# Altium footprint library MLACHQ_S.PCBLIB: 155 footprints (part 6 of 10)
Each footprint in its own frame and in the unit in brackets; x right, y up, seen from the top. Pads: shape width x height; smd on the part's side, far side on the other; paste and mask are expansions set on the pad; w line width, h text height; cw(c..) or ccw(c..) is an arc to the next point about the centre after c.
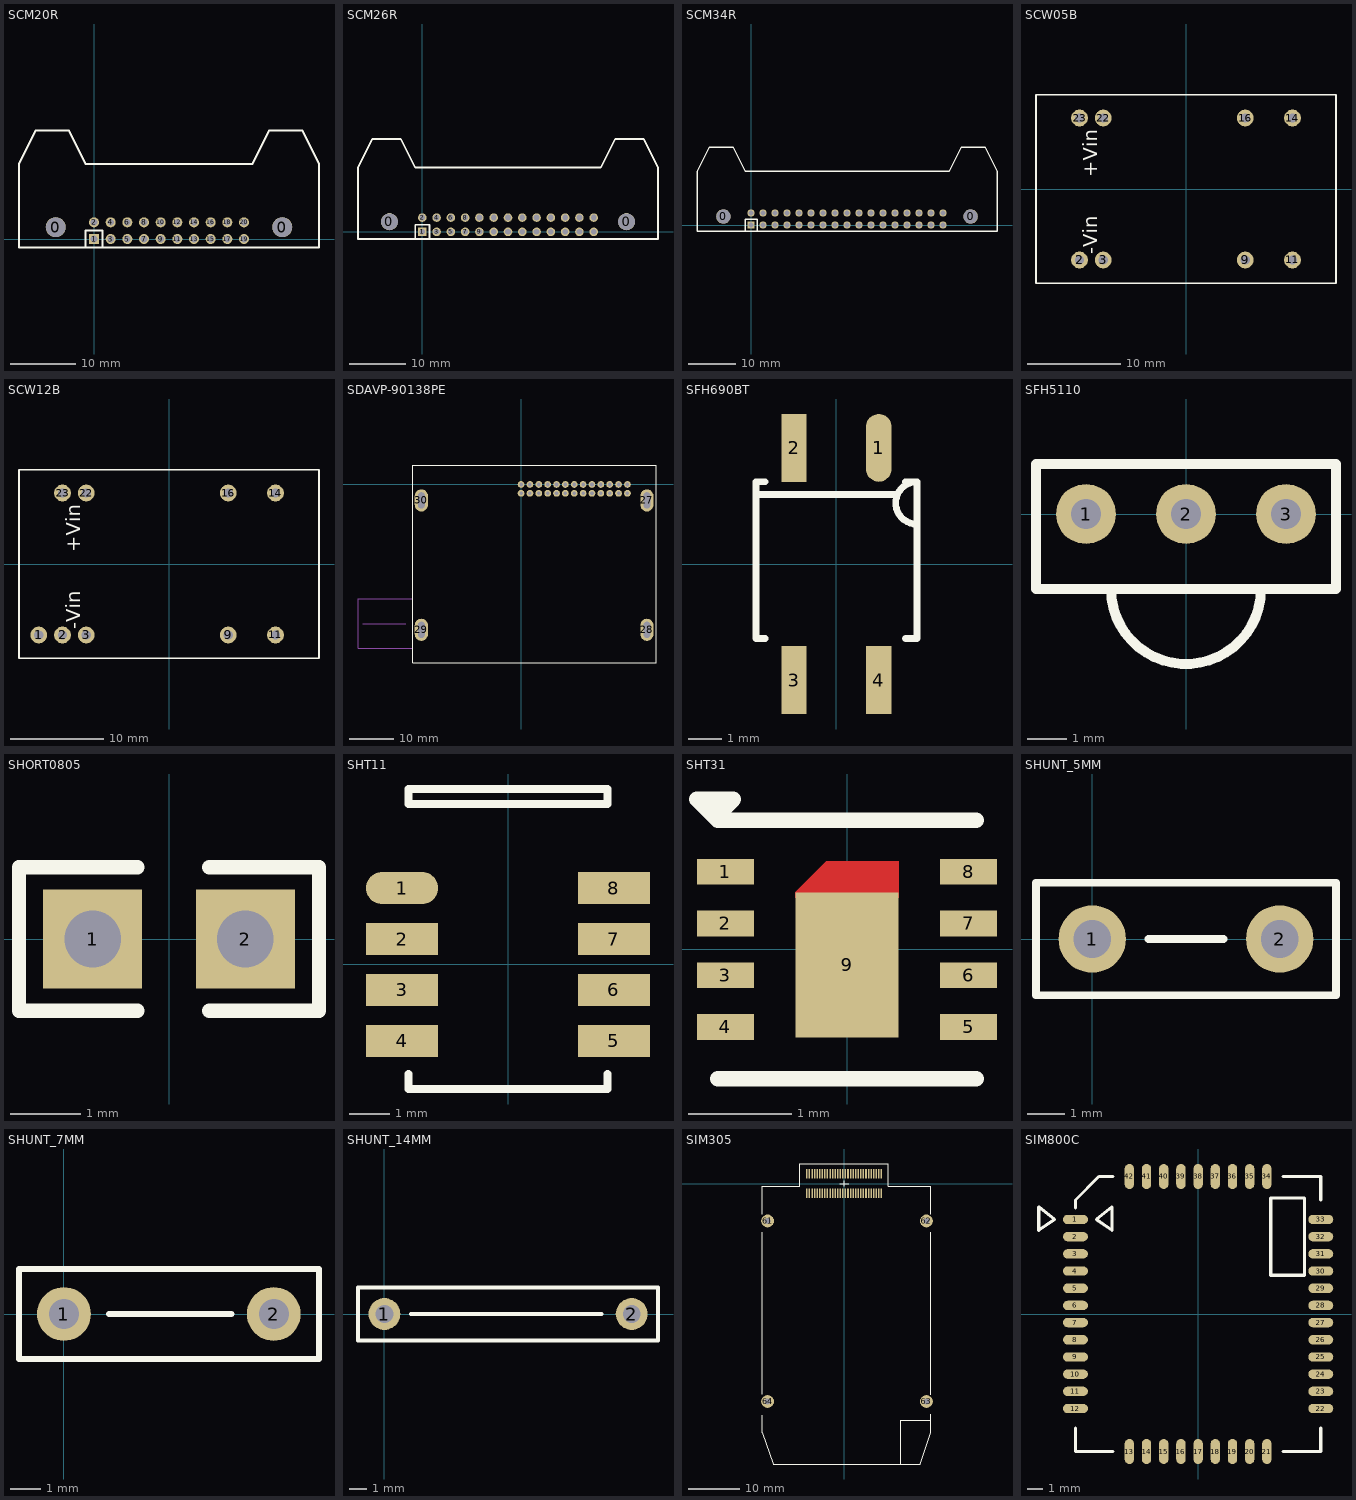
[diagram p5: the footprints below, top view; thin cyan lines are the x and y axes]

## SCM20R [mil]
pads (22):
  round 120 hole 118: 0(-229.92,70.87) 0(1129.92,70.87)
  rect 60x60 hole 40: 1(0,0)
  round 60 hole 40: 2(0,100) 3(100,0) 4(100,100) 5(200,0) 6(200,100) 7(300,0) 8(300,100) 9(400,0) 10(400,100) 11(500,0) 12(500,100) 13(600,0) 14(600,100) 15(700,0) 16(700,100) 17(800,0) 18(800,100) 19(900,0) 20(900,100)
TopOverlay:
  lines w12: -50,-50 -50,50 50,50 50,-50 ; -450,-50 -450,450 -350,650 -150,650 -50,450 950,450 1050,650 1250,650 1350,450 1350,-50 -450,-50

## SCM26R [mil]
pads (28):
  round 120 hole 118: 0(-229.92,70.87) 0(1429.92,70.87)
  rect 60x60 hole 40: 1(0,0)
  round 60 hole 40: 2(0,100) 3(100,0) 4(100,100) 5(200,0) 6(200,100) 7(300,0) 8(300,100) 9(400,0) 10(400,100) 11(500,0) 12(500,100) 13(600,0) 14(600,100) 15(700,0) 16(700,100) 17(800,0) 18(800,100) 19(900,0) 20(900,100) 21(1000,0) 22(1000,100) 23(1100,0) 24(1100,100) 25(1200,0) 26(1200,100)
TopOverlay:
  lines w12: -50,-50 -50,50 50,50 50,-50 ; -450,-50 1650,-50 1650,450 1550,650 1350,650 1250,450 -50,450 -150,650 -350,650 -450,450 -450,-50

## SCM34R [mil]
pads (36):
  round 120 hole 118: 0(-229.92,70.87) 0(1829.92,70.87)
  rect 60x60 hole 40: 1(0,0)
  round 60 hole 40: 2(0,100) 3(100,0) 4(100,100) 5(200,0) 6(200,100) 7(300,0) 8(300,100) 9(400,0) 10(400,100) 11(500,0) 12(500,100) 13(600,0) 14(600,100) 15(700,0) 16(700,100) 17(800,0) 18(800,100) 19(900,0) 20(900,100) 21(1000,0) 22(1000,100) 23(1100,0) 24(1100,100) 25(1200,0) 26(1200,100) 27(1300,0) 28(1300,100) 29(1400,0) 30(1400,100) 31(1500,0) 32(1500,100) 33(1600,0) 34(1600,100)
TopOverlay:
  lines w12: -50,-50 -50,50 50,50 50,-50 ; -450,-50 2050,-50 2050,450 1950,650 1750,650 1650,450 -50,450 -150,650 -350,650 -450,450 -450,-50

## SCW05B [mm]
height 10
pads (8):
  round 1.8 hole 1: 2(-11.43,-7.62) 3(-8.89,-7.62) 9(6.35,-7.62) 11(11.43,-7.62) 14(11.43,7.62) 16(6.35,7.62) 22(-8.89,7.62) 23(-11.43,7.62)
TopOverlay:
  lines w0.203: -16.1,-10.12 16.1,-10.12 16.1,10.12 -16.1,10.12 -16.1,-10.12
  text "+Vin" at -9.525,1.27 h1.52
  text "-Vin" at -9.525,-6.985 h1.52
3D body: height 12.2, standoff 0, extent -15.97,-10.12 15.97,10.12

## SCW12B [mm]
height 10
pads (9):
  round 1.8 hole 1: 1(-13.97,-7.62) 2(-11.43,-7.62) 3(-8.89,-7.62) 9(6.35,-7.62) 11(11.43,-7.62) 14(11.43,7.62) 16(6.35,7.62) 22(-8.89,7.62) 23(-11.43,7.62)
TopOverlay:
  lines w0.203: -16.1,-10.12 -16.1,10.12 16.1,10.12 16.1,-10.12 -16.1,-10.12
  text "-Vin" at -9.525,-6.985 h1.52
  text "+Vin" at -9.525,1.27 h1.52
3D body: height 12.2, standoff 0, extent -15.97,-10.12 15.97,10.12

## SDAVP-90138PE [mil]
pads (30):
  round 60 hole 32: 1(0,0) 2(0,-78.74) 3(78.74,0) 4(78.74,-78.74) 5(157.48,0) 6(157.48,-78.74) 7(236.22,0) 8(236.22,-78.74) 9(314.96,0) 10(314.96,-78.74) 11(393.7,0) 12(393.7,-78.74) 13(472.44,0) 14(472.44,-78.74) 15(551.18,0) 16(551.18,-78.74) 17(629.92,0) 18(629.92,-78.74) 19(708.66,0) 20(708.66,-78.74) 21(787.4,0) 22(787.4,-78.74) 23(866.14,0) 24(866.14,-78.74) 25(944.88,0) 26(944.88,-78.74)
  oval 118.11x196.85 hole 59.06 slot 141.73 at 90 deg: 27(1118.11,-141.73) 28(1118.11,-1291.34) 29(-885.83,-1291.34) 30(-885.83,-141.73)
TopOverlay:
  lines w10: -964.57,-1582.68 1200.79,-1582.68 1200.79,169.29 -964.57,169.29 -964.57,-1582.68
Opisy:
  lines w10: -1407.48,-1236.22 -1023.62,-1236.22 ; -964.57,-1456.69 -1448.82,-1456.69 -1448.82,-1015.75 -964.57,-1015.75

## SFH690BT [mil]
pads (4):
  oval 30x80 smd: 1(50,137)
  rect 30x80 smd: 2(-50,137) 3(-50,-137) 4(50,-137)
TopOverlay:
  lines w8: -95,82 70,82 ; -83.86,-88 -95,-88 -95,97 -83.86,97 ; 81.5,-88 95,-88 95,97 ; 81.5,97 95,97 ; 95,47 cw(c95,72) 95,97
3D body: height 47.24, standoff 0, extent -59.06,-137.8 -39.37,-86.61
3D body: height 47.24, standoff 0, extent 39.37,-137.8 59.06,-86.61
3D body: height 47.24, standoff 0, extent 39.37,86.61 59.06,137.8
3D body: height 47.24, standoff 0, extent -59.06,86.61 -39.37,137.8
3D body: height 98.43, standoff 0, extent -70.87,-86.61 70.87,86.61

## SFH5110 [mil]
pads (3):
  round 60 hole 30: 1(-100,0) 2(0,0) 3(100,0)
TopOverlay:
  lines w10: -75,-75 ccw(c0,-75) 75,-75 ; -150,-75 -150,50 150,50 150,-75 -150,-75

## SHORT0805 [mm]
pads (2):
  rect 1.4x1.4 hole 0.8: 1(-1.079,0) 2(1.079,0)
TopOverlay:
  lines w0.203: -0.445,-1.016 -2.121,-1.016 -2.121,1.016 -0.445,1.016 ; 0.572,-1.016 2.121,-1.016 2.121,1.016 0.572,1.016
3D body: height 0.5, standoff 0, extent 0.702,-0.4 1.498,0.398
3D body: height 0.5, standoff 0, extent -1.5,-0.4 -0.703,0.398
3D body: height 0.9, standoff 0.1, extent -1.47,-0.4 1.47,0.398

## SHT11 [mm]
pads (8):
  oval 1.8x0.8 smd: 1(-2.64,1.905)
  rect 1.8x0.8 smd: 2(-2.64,0.635) 3(-2.64,-0.635) 4(-2.64,-1.905) 5(2.64,-1.905) 6(2.64,-0.635) 7(2.64,0.635) 8(2.64,1.905)
TopOverlay:
  lines w0.203: -2.48,-2.727 -2.48,-3.105 2.48,-3.105 2.48,-2.727 ; -2.48,3.997 -2.48,4.375 2.48,4.375 2.48,3.997 -2.48,3.997

## SHT31 [mm]
pads (9):
  rect 0.55x0.25 smd paste+0: 1(-1.175,0.75) 2(-1.175,0.25) 3(-1.175,-0.25) 4(-1.175,-0.75) 5(1.175,-0.75) 6(1.175,-0.25) 7(1.175,0.25) 8(1.175,0.75)
  rect 1x1.4 smd paste-0.05 mask+0.1: 9(0,-0.15)
TopLayer:
  region: -0.5,0.5 0.5,0.5 0.5,0.85 -0.2,0.85 -0.5,0.55
TopOverlay:
  lines w0.15: -1.25,-1.25 1.25,-1.25 ; -1.2,1.25 -1.25,1.25 ; 1.25,1.25 -1.25,1.25 ; -1.25,1.25 -1.25,1.3 -1.1,1.45 -1.45,1.45 -1.25,1.25
TopPaste:
  region: -0.45,0.45 0.45,0.45 0.45,0.8 -0.15,0.8 -0.45,0.5
TopSolder:
  region: 0.6,0.95 0.6,0.5 -0.6,0.5 -0.6,0.65 -0.3,0.95

## SHUNT_5MM [mm]
pads (2):
  round 1.8 hole 1: 1(0,0) 2(5,0)
TopOverlay:
  lines w0.203: 1.5,0 3.5,0 ; -1.5,-1.5 6.5,-1.5 6.5,1.5 -1.5,1.5 -1.5,-1.5

## SHUNT_7MM [mm]
pads (2):
  round 1.8 hole 1: 1(0,0) 2(7,0)
TopOverlay:
  lines w0.203: 1.5,0 5.588,0 ; -1.5,-1.5 -1.5,1.5 8.509,1.5 8.509,-1.5 -1.5,-1.5

## SHUNT_14MM [mm]
pads (2):
  round 1.8 hole 1: 1(0,0) 2(14,0)
TopOverlay:
  lines w0.203: 1.5,0 12.319,0 ; -1.5,-1.5 -1.5,1.5 15.494,1.5 15.494,-1.5 -1.5,-1.5

## SIM305 [mm]
pads (64):
  rect 0.3x1.8 smd: 1(-7.25,1.9) 2(-7.25,-1.9) 3(-6.75,1.9) 4(-6.75,-1.9) 5(-6.25,1.9) 6(-6.25,-1.9) 7(-5.75,1.9) 8(-5.75,-1.9) 9(-5.25,1.9) 10(-5.25,-1.9) 11(-4.75,1.9) 12(-4.75,-1.9) 13(-4.25,1.9) 14(-4.25,-1.9) 15(-3.75,1.9) 16(-3.75,-1.9) 17(-3.25,1.9) 18(-3.25,-1.9) 19(-2.75,1.9) 20(-2.75,-1.9) 21(-2.25,1.9) 22(-2.25,-1.9) 23(-1.75,1.9) 24(-1.75,-1.9) 25(-1.25,1.9) 26(-1.25,-1.9) 27(-0.75,1.9) 28(-0.75,-1.9) 29(-0.25,1.9) 30(-0.25,-1.9) 31(0.25,1.9) 32(0.25,-1.9) 33(0.75,1.9) 34(0.75,-1.9) 35(1.25,1.9) 36(1.25,-1.9) 37(1.75,1.9) 38(1.75,-1.9) 39(2.25,1.9) 40(2.25,-1.9) 41(2.75,1.9) 42(2.75,-1.9) 43(3.25,1.9) 44(3.25,-1.9) 45(3.75,1.9) 46(3.75,-1.9) 47(4.25,1.9) 48(4.25,-1.9) 49(4.75,1.9) 50(4.75,-1.9) 51(5.25,1.9) 52(5.25,-1.9) 53(5.75,1.9) 54(5.75,-1.9) 55(6.25,1.9) 56(6.25,-1.9) 57(6.75,1.9) 58(6.75,-1.9) 59(7.25,1.9) 60(7.25,-1.9)
  round 2.5 hole 1.2: 61(-14.9,-7.28) 62(16.01,-7.28) 63(16.01,-42.43) 64(-14.9,-42.43)
TopOverlay:
  lines w0.203: -15.9,-45.085 -15.9,-48.5 -13.8,-54.6 14.8,-54.6 16.9,-48.5 16.9,-44.958 ; -15.9,-41.021 -15.9,-9.525 ; -15.9,-5.969 -15.9,-0.5 -8.6,-0.5 -8.6,3.8 8.6,3.8 8.6,-0.5 16.9,-0.5 16.9,-5.969 ; -0.889,0 0,0 ; 0,-0.508 0,0 ; 0,0.508 0,0 ; 0.889,0 0,0 ; 11.01,-54.6 11.01,-46.09 16.9,-46.09 ; 16.9,-41.148 16.9,-9.525

## SIM800C [mm]
pads (42):
  oval 1.6x0.6 smd: 1(-7.85,6.05) 2(-7.85,4.95) 3(-7.85,3.85) 4(-7.85,2.75) 5(-7.85,1.65) 6(-7.85,0.55) 7(-7.85,-0.55) 8(-7.85,-1.65) 9(-7.85,-2.75) 10(-7.85,-3.85) 11(-7.85,-4.95) 12(-7.85,-6.05) 22(7.85,-6.05) 23(7.85,-4.95) 24(7.85,-3.85) 25(7.85,-2.75) 26(7.85,-1.65) 27(7.85,-0.55) 28(7.85,0.55) 29(7.85,1.65) 30(7.85,2.75) 31(7.85,3.85) 32(7.85,4.95) 33(7.85,6.05)
  oval 0.6x1.6 smd: 13(-4.4,-8.8) 14(-3.3,-8.8) 15(-2.2,-8.8) 16(-1.1,-8.8) 17(0,-8.8) 18(1.1,-8.8) 19(2.2,-8.8) 20(3.3,-8.8) 21(4.4,-8.8) 34(4.4,8.8) 35(3.3,8.8) 36(2.2,8.8) 37(1.1,8.8) 38(0,8.8) 39(-1.1,8.8) 40(-2.2,8.8) 41(-3.3,8.8) 42(-4.4,8.8)
TopOverlay:
  lines w0.2: -7.85,-7.3 -7.85,-8.8 -5.45,-8.8 ; -7.85,6.8 -7.85,7.3 -6.35,8.8 -5.45,8.8 ; 5.45,-8.8 7.85,-8.8 7.85,-7.3 ; 5.45,8.8 7.85,8.8 7.85,7.3 ; -10.2,5.35 -9.2,6.05 -10.2,6.85 -10.2,5.35 ; -6.5,6.05 -5.5,6.85 -5.5,5.35 -6.5,6.05 ; 4.65,2.48 6.8,2.48 6.8,7.43 4.65,7.43 4.65,2.48
3D body: height 0.8, standoff 0, extent -7.85,-8.8 7.85,8.8
3D body: height 2.3, standoff 0, extent -6.95,-7.9 6.95,7.9